# EAGLE library part PIC16F84 (library moje)
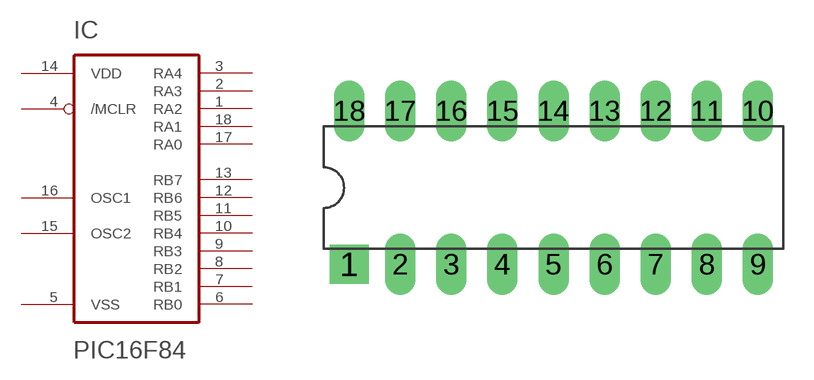
[diagram p0: symbol with the pads of DIL-18; footprint DIL-18]

Designator prefix IC

## PIC16F84  [DIL-18]
1  RA2  in
2  RA3  in
3  RA4  in
4  /MCLR
5  VSS  in
6  RB0  in
7  RB1  in
8  RB2  in
9  RB3  in
10  RB4  in
11  RB5
12  RB6
13  RB7
14  VDD
15  OSC2
16  OSC1
17  RA0
18  RA1

## Footprint DIL-18 (pad centres in mm)
drill 0.813 pad 1.93 square: 1 -10.16,-3.81
drill 0.813 pad 1.524 long: 2 -7.62,-3.81; 3 -5.08,-3.81; 4 -2.54,-3.81; 5 0,-3.81; 6 2.54,-3.81; 7 5.08,-3.81; 8 7.62,-3.81; 9 10.16,-3.81; 10 10.16,3.81; 11 7.62,3.81; 12 5.08,3.81; 13 2.54,3.81; 14 0,3.81; 15 -2.54,3.81; 16 -5.08,3.81; 17 -7.62,3.81; 18 -10.16,3.81